# Altium integrated library Dallas Memory Serial RAM.IntLib: 4 symbols
Pins are listed as number, name and electrical type; pins without a type are passive.

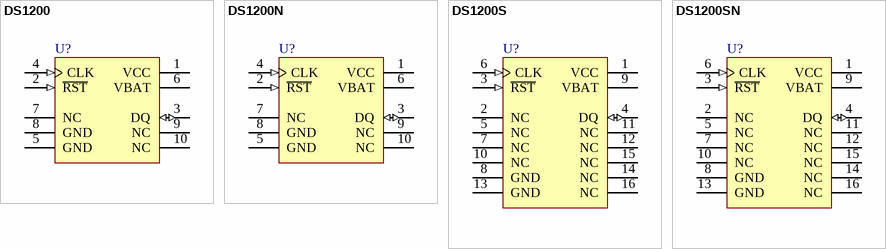
[diagram p0: symbols DS1200 to DS1200SN]

## DS1200
designator U?
Serial RAM Chip; Note: Pin numbers 7, 9 and 10 are Not Connected (NC); Published: 13-Oct-2000; LatestRevisionDate: 17-Jul-2002; LatestRevisionNote: Re-released for DXP Platform.; DatasheetVersion: 5-Mar-1998; PackageVersion: 1999; PackageReference: DIP10; Publisher: Altium Limited; PackageDescription: DIP, 10-Pin, Row Spacing 7.62 mm, Pitch 2.54 mm; ComponentLink1Description: Manufacturer Link; ComponentLink1URL: http://www.maxim-ic.com/; ComponentLink2Description: Datasheet; ComponentLink2URL: http://pdfserv.maxim-ic.com/en/ds/DS1200.pdf
footprint DIP10 (DIP, 10-Leads, Row Spacing 7.62mm, Pitch 2.54mm, Body 12.7x6.35mm)
pins: 1 VCC (power), 2 ~{RST} (in), 3 DQ (io), 4 CLK (in), 5 GND (power), 6 VBAT (power), 7 NC, 8 GND (power), 9 NC, 10 NC

## DS1200N
designator U?
Serial RAM Chip; Note: Pin numbers 7, 9 and 10 are Not Connected (NC); Published: 13-Oct-2000; LatestRevisionDate: 17-Jul-2002; LatestRevisionNote: Re-released for DXP Platform.; DatasheetVersion: 5-Mar-1998; PackageVersion: 1999; PackageReference: DIP10; Publisher: Altium Limited; PackageDescription: DIP, 10-Pin, Row Spacing 7.62 mm, Pitch 2.54 mm; ComponentLink1Description: Manufacturer Link; ComponentLink1URL: http://www.maxim-ic.com/; ComponentLink2Description: Datasheet; ComponentLink2URL: http://pdfserv.maxim-ic.com/en/ds/DS1200.pdf
footprint DIP10 (DIP, 10-Leads, Row Spacing 7.62mm, Pitch 2.54mm, Body 12.7x6.35mm)
pins: 1 VCC (power), 2 ~{RST} (in), 3 DQ (io), 4 CLK (in), 5 GND (power), 6 VBAT (power), 7 NC, 8 GND (power), 9 NC, 10 NC

## DS1200S
designator U?
Serial RAM Chip; Note: Pin numbers 2, 5, 7, 10, 11, 12, 14, 15 and 16 are Not Connected (NC); Published: 13-Oct-2000; LatestRevisionDate: 13-Apr-2006; LatestRevisionNote: IPC-7351 Footprint Added.; DatasheetVersion: 5-Mar-1998; PackageVersion: 1999; PackageReference: SOIC16W; Publisher: Altium Limited; PackageDescription: 16-Pin Small Outline Integrated Circuit 1.27 mm Pitch; ComponentLink1Description: Manufacturer Link; ComponentLink1URL: http://www.maxim-ic.com/; ComponentLink2Description: Datasheet; ComponentLink2URL: http://pdfserv.maxim-ic.com/en/ds/DS1200.pdf
footprint SOIC16W_N (SOIC, 16-Leads, Body 10.3x7.5mm, Pitch 1.27mm, IPC Medium Density)
footprint SOIC16W_L (SOIC, 16-Leads, Body 10.3x7.5mm, Pitch 1.27mm, IPC High Density)
footprint SOIC16W_M (SOIC, 16-Leads, Body 10.3x7.5mm, Pitch 1.27mm, IPC Low Density)
pins: 1 VCC (power), 2 NC, 3 ~{RST} (in), 4 DQ (io), 5 NC, 6 CLK (in), 7 NC, 8 GND (power), 9 VBAT (power), 10 NC, 11 NC, 12 NC, 13 GND (power), 14 NC, 15 NC, 16 NC

## DS1200SN
designator U?
Serial RAM Chip; Note: Pin numbers 2, 5, 7, 10, 11, 12, 14, 15 and 16 are Not Connected (NC); Published: 13-Oct-2000; LatestRevisionDate: 13-Apr-2006; LatestRevisionNote: IPC-7351 Footprint Added.; DatasheetVersion: 5-Mar-1998; PackageVersion: 1999; PackageReference: SOIC16W; Publisher: Altium Limited; PackageDescription: 16-Pin Small Outline Integrated Circuit 1.27 mm Pitch; ComponentLink1Description: Manufacturer Link; ComponentLink1URL: http://www.maxim-ic.com/; ComponentLink2Description: Datasheet; ComponentLink2URL: http://pdfserv.maxim-ic.com/en/ds/DS1200.pdf
footprint SOIC16W_N (SOIC, 16-Leads, Body 10.3x7.5mm, Pitch 1.27mm, IPC Medium Density)
footprint SOIC16W_L (SOIC, 16-Leads, Body 10.3x7.5mm, Pitch 1.27mm, IPC High Density)
footprint SOIC16W_M (SOIC, 16-Leads, Body 10.3x7.5mm, Pitch 1.27mm, IPC Low Density)
pins: 1 VCC (power), 2 NC, 3 ~{RST} (in), 4 DQ (io), 5 NC, 6 CLK (in), 7 NC, 8 GND (power), 9 VBAT (power), 10 NC, 11 NC, 12 NC, 13 GND (power), 14 NC, 15 NC, 16 NC